# Altium integrated library ON Semi Signal Management Operational Amplifiers.IntLib: 435 symbols (part 6 of 12)
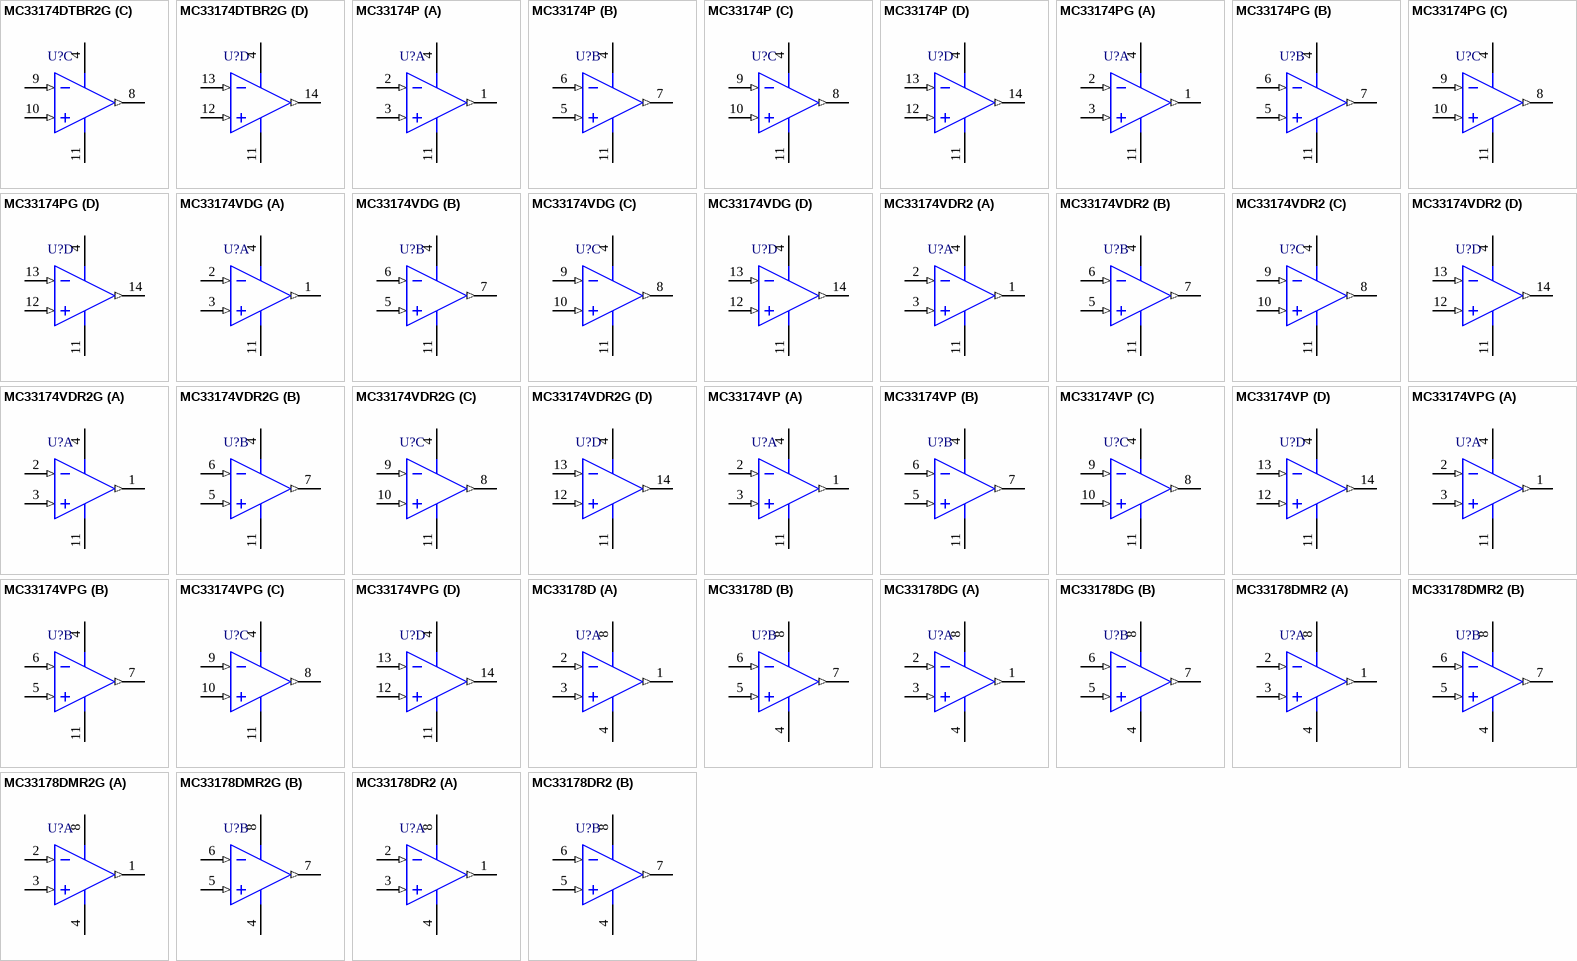
[diagram p30: symbols MC33174DTBR2G to MC33178DR2]

## MC33174VDR2
designator U?
Single Supply, Low Power Operational Amplifier, 3 to 44 V, -40 to 125 degC, 14-Pin SOIC, Tape and Reel; Manufacturer: On Semiconductor; PartNumber: MC33174VDR2; GBW Typ (MHz): 1.8; SR Typ (V/uS): 2.1; VCC Max (V): 44; VCC Min (V): 3; DatasheetVersion: Rev. 12; PackageVersion: Rev. H; PackageReference: SOIC-14-751A-03_H; PackageDescription: 14-Pin Small Outline Integrated Circuit, Body 8.65 x 3.9 mm, Pitch 1.27 mm; Packing: Tape and Reel; RoHS: FALSE; Mounting Technology: Surface Mount; ComponentLink1Description: Manufacturer URL; ComponentLink1URL: http://www.onsemi.com/; ComponentLink2Description: Datasheet; ComponentLink2URL: http://www.onsemi.cn/pub_link/Collateral/MC33171-D.PDF; ComponentLink3Description: Package Specification; ComponentLink3URL: http://www.onsemi.com/pub_link/Collateral/MC74AC74-D.PDF
footprint ONSC-SOIC-14-751A-03_H_V (SOIC, 14-Leads, Body 8.75x4mm, Pitch 1.27mm)
pins on every part: 4 VCC (power), 11 VEE (power)
part A pins: 1 OUT1 (out), 2 IN1- (in), 3 IN1+ (in)
part B pins: 5 IN2+ (in), 6 IN2- (in), 7 OUT2 (out)
part C pins: 8 OUT3 (out), 9 IN3- (in), 10 IN3+ (in)
part D pins: 12 IN4+ (in), 13 IN4- (in), 14 OUT4 (out)

## MC33174VDR2G
designator U?
Single Supply, Low Power Operational Amplifier, 3 to 44 V, -40 to 125 degC, 14-Pin SOIC, Pb-Free, Tape and Reel; Manufacturer: On Semiconductor; PartNumber: MC33174VDR2G; GBW Typ (MHz): 1.8; SR Typ (V/uS): 2.1; VCC Max (V): 44; VCC Min (V): 3; DatasheetVersion: Rev. 12; PackageVersion: Rev. H; PackageReference: SOIC-14-751A-03_H; PackageDescription: 14-Pin Small Outline Integrated Circuit, Body 8.65 x 3.9 mm, Pitch 1.27 mm; Supplier 1: Digi-Key; Supplier Part Number 1: MC33174VDR2GOSTR-ND; Supplier 2: Digi-Key; Supplier Part Number 2: MC33174VDR2GOSCT-ND; Supplier 3: Newark; Supplier Part Number 3: 42K0593; Supplier 4: Mouser; Supplier Part Number 4: 863-MC33174VDR2G; Packing: Tape and Reel; RoHS: TRUE; Mounting Technology: Surface Mount; ComponentLink1Description: Manufacturer URL; ComponentLink1URL: http://www.onsemi.com/; ComponentLink2Description: Datasheet; ComponentLink2URL: http://www.onsemi.cn/pub_link/Collateral/MC33171-D.PDF; ComponentLink3Description: Package Specification; ComponentLink3URL: http://www.onsemi.com/pub_link/Collateral/MC74AC74-D.PDF
footprint ONSC-SOIC-14-751A-03_H_V (SOIC, 14-Leads, Body 8.75x4mm, Pitch 1.27mm)
pins on every part: 4 VCC (power), 11 VEE (power)
part A pins: 1 OUT1 (out), 2 IN1- (in), 3 IN1+ (in)
part B pins: 5 IN2+ (in), 6 IN2- (in), 7 OUT2 (out)
part C pins: 8 OUT3 (out), 9 IN3- (in), 10 IN3+ (in)
part D pins: 12 IN4+ (in), 13 IN4- (in), 14 OUT4 (out)

## MC33174VP
designator U?
Single Supply, Low Power Operational Amplifier, 3 to 44 V, -40 to 125 degC, 14-Pin PDIP, Tube; Manufacturer: On Semiconductor; PartNumber: MC33174VP; GBW Typ (MHz): 1.8; SR Typ (V/uS): 2.1; VCC Max (V): 44; VCC Min (V): 3; DatasheetVersion: Rev. 12; PackageVersion: Rev. P, 10/2006; PackageReference: PDIP-14-646-06_P; PackageDescription: 14-Pin Plastic Dual-In Line Package, Body 18.86 x 6.35 mm, Pitch 2.54 mm; Supplier 1: Digi-Key; Supplier Part Number 1: MC33174VPOS-ND; Packing: Tube; RoHS: FALSE; Mounting Technology: Through Hole; ComponentLink1Description: Manufacturer URL; ComponentLink1URL: http://www.onsemi.com/; ComponentLink2Description: Datasheet; ComponentLink2URL: http://www.onsemi.cn/pub_link/Collateral/MC33171-D.PDF; ComponentLink3Description: Package Specification; ComponentLink3URL: http://www.onsemi.com/pub_link/Collateral/MC14066B-D.PDF
footprint ONSC-PDIP-14-646-06_P (DIP, 14-Leads, Body 19.55x6.6mm, Pitch 2.54mm)
pins on every part: 4 VCC (power), 11 VEE (power)
part A pins: 1 OUT1 (out), 2 IN1- (in), 3 IN1+ (in)
part B pins: 5 IN2+ (in), 6 IN2- (in), 7 OUT2 (out)
part C pins: 8 OUT3 (out), 9 IN3- (in), 10 IN3+ (in)
part D pins: 12 IN4+ (in), 13 IN4- (in), 14 OUT4 (out)

## MC33174VPG
designator U?
Single Supply, Low Power Operational Amplifier, 3 to 44 V, -40 to 125 degC, 14-Pin PDIP, Pb-Free, Tube; Manufacturer: On Semiconductor; PartNumber: MC33174VPG; GBW Typ (MHz): 1.8; SR Typ (V/uS): 2.1; VCC Max (V): 44; VCC Min (V): 3; DatasheetVersion: Rev. 12; PackageVersion: Rev. P, 10/2006; PackageReference: PDIP-14-646-06_P; PackageDescription: 14-Pin Plastic Dual-In Line Package, Body 18.86 x 6.35 mm, Pitch 2.54 mm; Supplier 1: Digi-Key; Supplier Part Number 1: MC33174VPGOS-ND; Supplier 2: Newark; Supplier Part Number 2: 42K0594; Supplier 3: Mouser; Supplier Part Number 3: 863-MC33174VPG; Packing: Tube; RoHS: TRUE; Mounting Technology: Through Hole; ComponentLink1Description: Manufacturer URL; ComponentLink1URL: http://www.onsemi.com/; ComponentLink2Description: Datasheet; ComponentLink2URL: http://www.onsemi.cn/pub_link/Collateral/MC33171-D.PDF; ComponentLink3Description: Package Specification; ComponentLink3URL: http://www.onsemi.com/pub_link/Collateral/MC14066B-D.PDF
footprint ONSC-PDIP-14-646-06_P (DIP, 14-Leads, Body 19.55x6.6mm, Pitch 2.54mm)
pins on every part: 4 VCC (power), 11 VEE (power)
part A pins: 1 OUT1 (out), 2 IN1- (in), 3 IN1+ (in)
part B pins: 5 IN2+ (in), 6 IN2- (in), 7 OUT2 (out)
part C pins: 8 OUT3 (out), 9 IN3- (in), 10 IN3+ (in)
part D pins: 12 IN4+ (in), 13 IN4- (in), 14 OUT4 (out)

## MC33178D
designator U?
Low Power, Low Noise Operational Amplifier, 4 to 36 V, -40 to 85 degC, 8-Pin SOIC, Tube; Manufacturer: On Semiconductor; PartNumber: MC33178D; GBW Typ (MHz): 5; SR Typ (V/uS): 2; VCC Max (V): 36; VCC Min (V): 4; DatasheetVersion: Rev. 7; PackageVersion: Rev. AK, 02/2011; PackageReference: SOIC-8-751-07; PackageDescription: 8-Pin Small Outline Integrated Circuit, Body 4.9 x 3.9 mm, Pitch 1.27 mm; Packing: Tube; RoHS: FALSE; Mounting Technology: Surface Mount; ComponentLink1Description: Manufacturer URL; ComponentLink1URL: http://www.onsemi.com/; ComponentLink2Description: Datasheet; ComponentLink2URL: http://www.onsemi.cn/pub_link/Collateral/MC33178-D.PDF; ComponentLink3Description: Package Specification; ComponentLink3URL: http://www.onsemi.com/pub_link/Collateral/751-07.PDF
footprint ONSC-SOIC-8-751-07_V (SOIC, 8-Leads, Body 4.9x3.9mm, Pitch 1.27mm)
pins on every part: 4 VEE (power), 8 VCC (power)
part A pins: 1 OUT1 (out), 2 IN1- (in), 3 IN1+ (in)
part B pins: 5 IN2+ (in), 6 IN2- (in), 7 OUT2 (out)

## MC33178DG
designator U?
Low Power, Low Noise Operational Amplifier, 4 to 36 V, -40 to 85 degC, 8-Pin SOIC, Pb-Free, Tube; Manufacturer: On Semiconductor; PartNumber: MC33178DG; GBW Typ (MHz): 5; SR Typ (V/uS): 2; VCC Max (V): 36; VCC Min (V): 4; DatasheetVersion: Rev. 7; PackageVersion: Rev. AK, 02/2011; PackageReference: SOIC-8-751-07; PackageDescription: 8-Pin Small Outline Integrated Circuit, Body 4.9 x 3.9 mm, Pitch 1.27 mm; Supplier 1: Digi-Key; Supplier Part Number 1: MC33178DGOS-ND; Supplier 2: Farnell; Supplier Part Number 2: 1468737; Supplier 3: Newark; Supplier Part Number 3: 88H4724; Supplier 4: Mouser; Supplier Part Number 4: 863-MC33178DG; Packing: Tube; RoHS: TRUE; Mounting Technology: Surface Mount; ComponentLink1Description: Manufacturer URL; ComponentLink1URL: http://www.onsemi.com/; ComponentLink2Description: Datasheet; ComponentLink2URL: http://www.onsemi.cn/pub_link/Collateral/MC33178-D.PDF; ComponentLink3Description: Package Specification; ComponentLink3URL: http://www.onsemi.com/pub_link/Collateral/751-07.PDF
footprint ONSC-SOIC-8-751-07_V (SOIC, 8-Leads, Body 4.9x3.9mm, Pitch 1.27mm)
pins on every part: 4 VEE (power), 8 VCC (power)
part A pins: 1 OUT1 (out), 2 IN1- (in), 3 IN1+ (in)
part B pins: 5 IN2+ (in), 6 IN2- (in), 7 OUT2 (out)

## MC33178DMR2
designator U?
Low Power, Low Noise Operational Amplifier, 4 to 36 V, -40 to 85 degC, 8-Pin MICRO, Tape and Reel; Manufacturer: On Semiconductor; PartNumber: MC33178DMR2; GBW Typ (MHz): 5; SR Typ (V/uS): 2; VCC Max (V): 36; VCC Min (V): 4; DatasheetVersion: Rev. 7; PackageVersion: Rev. H; PackageReference: MICRO-8-846A-02_H; PackageDescription: 8-Pin Small Outline Package, Body 3 x 3 mm, Pitch 0.65 mm; Packing: Tape and Reel; RoHS: FALSE; Mounting Technology: Surface Mount; ComponentLink1Description: Manufacturer URL; ComponentLink1URL: http://www.onsemi.com/; ComponentLink2Description: Datasheet; ComponentLink2URL: http://www.onsemi.cn/pub_link/Collateral/MC33178-D.PDF; ComponentLink3Description: Package Specification; ComponentLink3URL: http://www.onsemi.com/pub_link/Collateral/NLSV2T244-D.PDF
footprint ONSC-MICRO-8-846A-02_H_V (SOIC, 8-Leads, Body 3.1x3.1mm, Pitch 0.65mm)
pins on every part: 4 VEE (power), 8 VCC (power)
part A pins: 1 OUT1 (out), 2 IN1- (in), 3 IN1+ (in)
part B pins: 5 IN2+ (in), 6 IN2- (in), 7 OUT2 (out)

## MC33178DMR2G
designator U?
Low Power, Low Noise Operational Amplifier, 4 to 36 V, -40 to 85 degC, 8-Pin MICRO, Pb-Free, Tape and Reel; Manufacturer: On Semiconductor; PartNumber: MC33178DMR2G; GBW Typ (MHz): 5; SR Typ (V/uS): 2; VCC Max (V): 36; VCC Min (V): 4; DatasheetVersion: Rev. 7; PackageVersion: Rev. H; PackageReference: MICRO-8-846A-02_H; PackageDescription: 8-Pin Small Outline Package, Body 3 x 3 mm, Pitch 0.65 mm; Supplier 1: Digi-Key; Supplier Part Number 1: MC33178DMR2GOSTR-ND; Supplier 2: Digi-Key; Supplier Part Number 2: MC33178DMR2GOSCT-ND; Supplier 3: Digi-Key; Supplier Part Number 3: MC33178DMR2GOSDKR-ND; Supplier 4: Newark; Supplier Part Number 4: 61K0882; Supplier 5: Mouser; Supplier Part Number 5: 863-MC33178DMR2G; Packing: Tape and Reel; RoHS: TRUE; Mounting Technology: Surface Mount; ComponentLink1Description: Manufacturer URL; ComponentLink1URL: http://www.onsemi.com/; ComponentLink2Description: Datasheet; ComponentLink2URL: http://www.onsemi.cn/pub_link/Collateral/MC33178-D.PDF; ComponentLink3Description: Package Specification; ComponentLink3URL: http://www.onsemi.com/pub_link/Collateral/NLSV2T244-D.PDF
footprint ONSC-MICRO-8-846A-02_H_V (SOIC, 8-Leads, Body 3.1x3.1mm, Pitch 0.65mm)
pins on every part: 4 VEE (power), 8 VCC (power)
part A pins: 1 OUT1 (out), 2 IN1- (in), 3 IN1+ (in)
part B pins: 5 IN2+ (in), 6 IN2- (in), 7 OUT2 (out)

## MC33178DR2
designator U?
Low Power, Low Noise Operational Amplifier, 4 to 36 V, -40 to 85 degC, 8-Pin SOIC, Tape and Reel; Manufacturer: On Semiconductor; PartNumber: MC33178DR2; GBW Typ (MHz): 5; SR Typ (V/uS): 2; VCC Max (V): 36; VCC Min (V): 4; DatasheetVersion: Rev. 7; PackageVersion: Rev. AK, 02/2011; PackageReference: SOIC-8-751-07; PackageDescription: 8-Pin Small Outline Integrated Circuit, Body 4.9 x 3.9 mm, Pitch 1.27 mm; Supplier 1: Digi-Key; Supplier Part Number 1: MC33178DR2OSCT-ND; Packing: Tape and Reel; RoHS: FALSE; Mounting Technology: Surface Mount; ComponentLink1Description: Manufacturer URL; ComponentLink1URL: http://www.onsemi.com/; ComponentLink2Description: Datasheet; ComponentLink2URL: http://www.onsemi.cn/pub_link/Collateral/MC33178-D.PDF; ComponentLink3Description: Package Specification; ComponentLink3URL: http://www.onsemi.com/pub_link/Collateral/751-07.PDF
footprint ONSC-SOIC-8-751-07_V (SOIC, 8-Leads, Body 4.9x3.9mm, Pitch 1.27mm)
pins on every part: 4 VEE (power), 8 VCC (power)
part A pins: 1 OUT1 (out), 2 IN1- (in), 3 IN1+ (in)
part B pins: 5 IN2+ (in), 6 IN2- (in), 7 OUT2 (out)

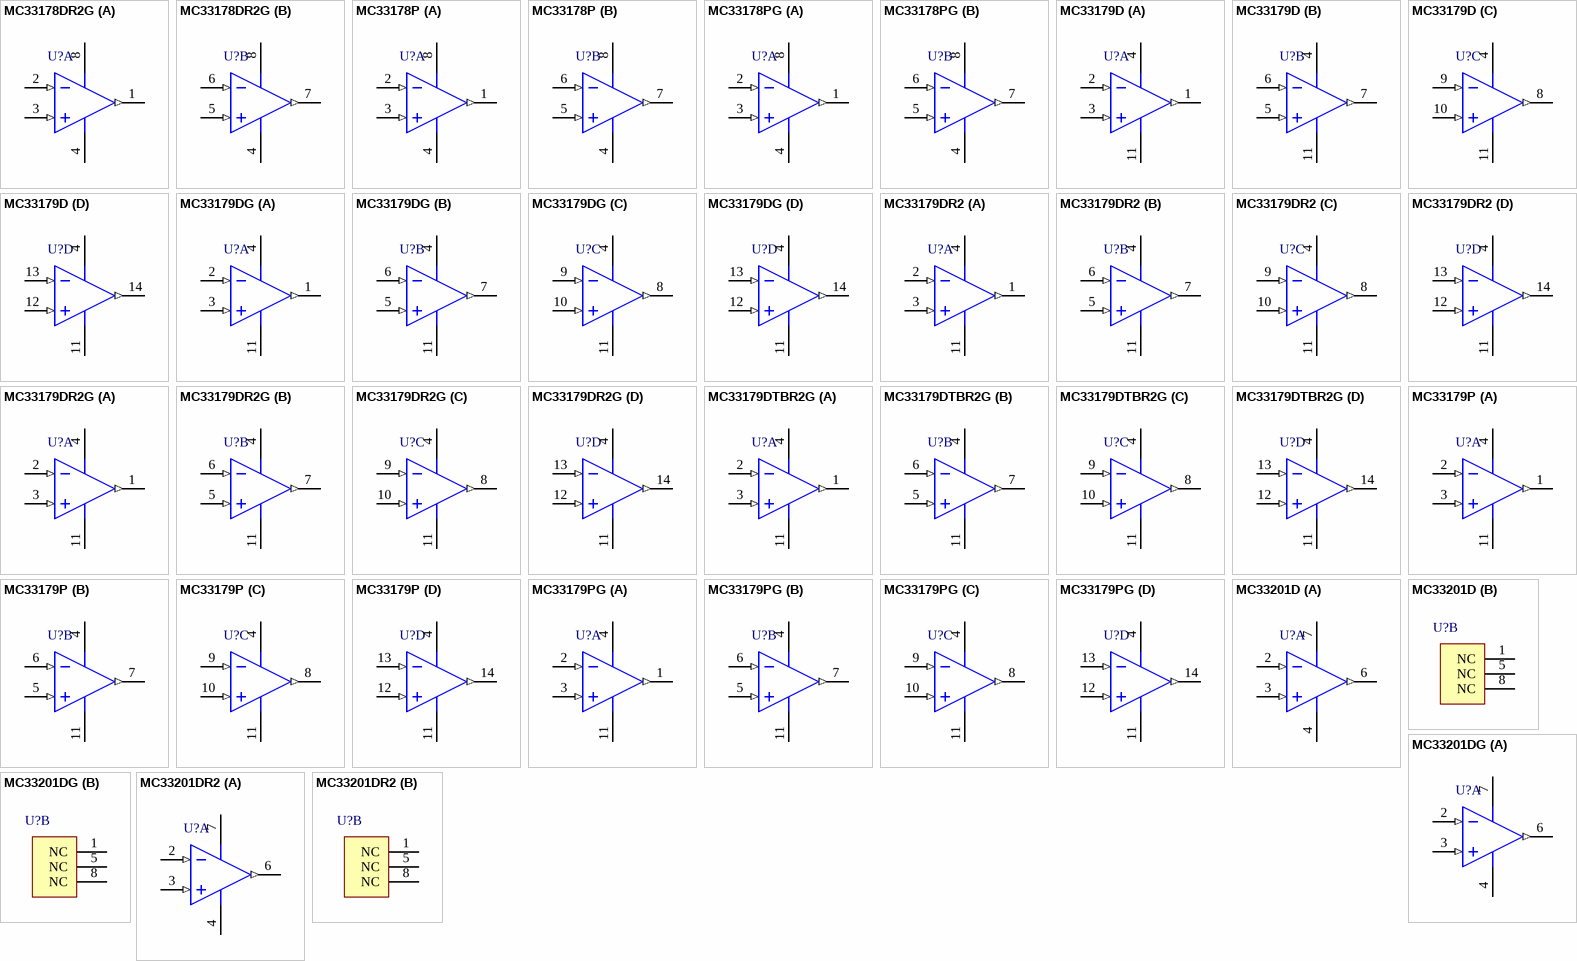
[diagram p13: symbols MC33178DR2G to MC33201DR2]

## MC33178DR2G
designator U?
Low Power, Low Noise Operational Amplifier, 4 to 36 V, -40 to 85 degC, 8-Pin SOIC, Pb-Free, Tape and Reel; Manufacturer: On Semiconductor; PartNumber: MC33178DR2G; GBW Typ (MHz): 5; SR Typ (V/uS): 2; VCC Max (V): 36; VCC Min (V): 4; DatasheetVersion: Rev. 7; PackageVersion: Rev. AK, 02/2011; PackageReference: SOIC-8-751-07; PackageDescription: 8-Pin Small Outline Integrated Circuit, Body 4.9 x 3.9 mm, Pitch 1.27 mm; Supplier 1: Digi-Key; Supplier Part Number 1: MC33178DR2GOSTR-ND; Supplier 2: Digi-Key; Supplier Part Number 2: MC33178DR2GOSCT-ND; Supplier 3: Digi-Key; Supplier Part Number 3: MC33178DR2GOSDKR-ND; Supplier 4: Farnell; Supplier Part Number 4: 1260806; Supplier 5: Newark; Supplier Part Number 5: 45J1176; Supplier 6: Newark; Supplier Part Number 6: 29X6050; Supplier 7: Mouser; Supplier Part Number 7: 863-MC33178DR2G; Packing: Tape and Reel; RoHS: TRUE; Mounting Technology: Surface Mount; ComponentLink1Description: Manufacturer URL; ComponentLink1URL: http://www.onsemi.com/; ComponentLink2Description: Datasheet; ComponentLink2URL: http://www.onsemi.cn/pub_link/Collateral/MC33178-D.PDF; ComponentLink3Description: Package Specification; ComponentLink3URL: http://www.onsemi.com/pub_link/Collateral/751-07.PDF
footprint ONSC-SOIC-8-751-07_V (SOIC, 8-Leads, Body 4.9x3.9mm, Pitch 1.27mm)
pins on every part: 4 VEE (power), 8 VCC (power)
part A pins: 1 OUT1 (out), 2 IN1- (in), 3 IN1+ (in)
part B pins: 5 IN2+ (in), 6 IN2- (in), 7 OUT2 (out)

## MC33178P
designator U?
Low Power, Low Noise Operational Amplifier, 4 to 36 V, -40 to 85 degC, 8-Pin PDIP, Tube; Manufacturer: On Semiconductor; PartNumber: MC33178P; GBW Typ (MHz): 5; SR Typ (V/uS): 2; VCC Max (V): 36; VCC Min (V): 4; DatasheetVersion: Rev. 7; PackageVersion: Rev. L, 09/2000; PackageReference: PDIP-8-626-05; PackageDescription: 8-Pin Plastic Dual-In Line Package, Body 9.78 x 6.35 mm, Pitch 2.54 mm; Packing: Tube; RoHS: FALSE; Mounting Technology: Through Hole; ComponentLink1Description: Manufacturer URL; ComponentLink1URL: http://www.onsemi.com/; ComponentLink2Description: Datasheet; ComponentLink2URL: http://www.onsemi.cn/pub_link/Collateral/MC33178-D.PDF; ComponentLink3Description: Package Specification; ComponentLink3URL: http://www.onsemi.cn/pub_link/Collateral/MC33178-D.PDF
footprint ONSC-PDIP-8-626-05_L (DIP, 8-Leads, Body 10.15x6.6mm, Pitch 2.54mm)
pins on every part: 4 VEE (power), 8 VCC (power)
part A pins: 1 OUT1 (out), 2 IN1- (in), 3 IN1+ (in)
part B pins: 5 IN2+ (in), 6 IN2- (in), 7 OUT2 (out)

## MC33178PG
designator U?
Low Power, Low Noise Operational Amplifier, 4 to 36 V, -40 to 85 degC, 8-Pin PDIP, Pb-Free, Tube; Manufacturer: On Semiconductor; PartNumber: MC33178PG; GBW Typ (MHz): 5; SR Typ (V/uS): 2; VCC Max (V): 36; VCC Min (V): 4; DatasheetVersion: Rev. 7; PackageVersion: Rev. L, 09/2000; PackageReference: PDIP-8-626-05; PackageDescription: 8-Pin Plastic Dual-In Line Package, Body 9.78 x 6.35 mm, Pitch 2.54 mm; Supplier 1: Digi-Key; Supplier Part Number 1: MC33178PGOS-ND; Supplier 2: Farnell; Supplier Part Number 2: 9666818; Supplier 3: Newark; Supplier Part Number 3: 71J5521; Supplier 4: Mouser; Supplier Part Number 4: 863-MC33178PG; Packing: Tube; RoHS: TRUE; Mounting Technology: Through Hole; ComponentLink1Description: Manufacturer URL; ComponentLink1URL: http://www.onsemi.com/; ComponentLink2Description: Datasheet; ComponentLink2URL: http://www.onsemi.cn/pub_link/Collateral/MC33178-D.PDF; ComponentLink3Description: Package Specification; ComponentLink3URL: http://www.onsemi.cn/pub_link/Collateral/MC33178-D.PDF
footprint ONSC-PDIP-8-626-05_L (DIP, 8-Leads, Body 10.15x6.6mm, Pitch 2.54mm)
pins on every part: 4 VEE (power), 8 VCC (power)
part A pins: 1 OUT1 (out), 2 IN1- (in), 3 IN1+ (in)
part B pins: 5 IN2+ (in), 6 IN2- (in), 7 OUT2 (out)

## MC33179D
designator U?
Low Power, Low Noise Operational Amplifier, 4 to 36 V, -40 to 85 degC, 14-Pin SOIC, Tube; Manufacturer: On Semiconductor; PartNumber: MC33179D; GBW Typ (MHz): 5; SR Typ (V/uS): 2; VCC Max (V): 36; VCC Min (V): 4; DatasheetVersion: Rev. 7; PackageVersion: Rev. H; PackageReference: SOIC-14-751A-03_H; PackageDescription: 14-Pin Small Outline Integrated Circuit, Body 8.65 x 3.9 mm, Pitch 1.27 mm; Packing: Tube; RoHS: FALSE; Mounting Technology: Surface Mount; ComponentLink1Description: Manufacturer URL; ComponentLink1URL: http://www.onsemi.com/; ComponentLink2Description: Datasheet; ComponentLink2URL: http://www.onsemi.cn/pub_link/Collateral/MC33178-D.PDF; ComponentLink3Description: Package Specification; ComponentLink3URL: http://www.onsemi.com/pub_link/Collateral/MC74AC74-D.PDF
footprint ONSC-SOIC-14-751A-03_H_V (SOIC, 14-Leads, Body 8.75x4mm, Pitch 1.27mm)
pins on every part: 4 VCC (power), 11 VEE (power)
part A pins: 1 OUT1 (out), 2 IN1- (in), 3 IN1+ (in)
part B pins: 5 IN2+ (in), 6 IN2- (in), 7 OUT2 (out)
part C pins: 8 OUT3 (out), 9 IN3- (in), 10 IN3+ (in)
part D pins: 12 IN4+ (in), 13 IN4- (in), 14 OUT4 (out)

## MC33179DG
designator U?
Low Power, Low Noise Operational Amplifier, 4 to 36 V, -40 to 85 degC, 14-Pin SOIC, Pb-Free, Tube; Manufacturer: On Semiconductor; PartNumber: MC33179DG; GBW Typ (MHz): 5; SR Typ (V/uS): 2; VCC Max (V): 36; VCC Min (V): 4; DatasheetVersion: Rev. 7; PackageVersion: Rev. H; PackageReference: SOIC-14-751A-03_H; PackageDescription: 14-Pin Small Outline Integrated Circuit, Body 8.65 x 3.9 mm, Pitch 1.27 mm; Supplier 1: Digi-Key; Supplier Part Number 1: MC33179DGOS-ND; Supplier 2: Farnell; Supplier Part Number 2: 1651874; Supplier 3: Newark; Supplier Part Number 3: 98H0686; Supplier 4: Mouser; Supplier Part Number 4: 863-MC33179DG; Packing: Tube; RoHS: TRUE; Mounting Technology: Surface Mount; ComponentLink1Description: Manufacturer URL; ComponentLink1URL: http://www.onsemi.com/; ComponentLink2Description: Datasheet; ComponentLink2URL: http://www.onsemi.cn/pub_link/Collateral/MC33178-D.PDF; ComponentLink3Description: Package Specification; ComponentLink3URL: http://www.onsemi.com/pub_link/Collateral/MC74AC74-D.PDF
footprint ONSC-SOIC-14-751A-03_H_V (SOIC, 14-Leads, Body 8.75x4mm, Pitch 1.27mm)
pins on every part: 4 VCC (power), 11 VEE (power)
part A pins: 1 OUT1 (out), 2 IN1- (in), 3 IN1+ (in)
part B pins: 5 IN2+ (in), 6 IN2- (in), 7 OUT2 (out)
part C pins: 8 OUT3 (out), 9 IN3- (in), 10 IN3+ (in)
part D pins: 12 IN4+ (in), 13 IN4- (in), 14 OUT4 (out)

## MC33179DR2
designator U?
Low Power, Low Noise Operational Amplifier, 4 to 36 V, -40 to 85 degC, 14-Pin SOIC, Tape and Reel; Manufacturer: On Semiconductor; PartNumber: MC33179DR2; GBW Typ (MHz): 5; SR Typ (V/uS): 2; VCC Max (V): 36; VCC Min (V): 4; DatasheetVersion: Rev. 7; PackageVersion: Rev. H; PackageReference: SOIC-14-751A-03_H; PackageDescription: 14-Pin Small Outline Integrated Circuit, Body 8.65 x 3.9 mm, Pitch 1.27 mm; Supplier 1: Digi-Key; Supplier Part Number 1: MC33179DR2OSCT-ND; Supplier 2: Digi-Key; Supplier Part Number 2: MC33179DR2OSDKR-ND; Packing: Tape and Reel; RoHS: FALSE; Mounting Technology: Surface Mount; ComponentLink1Description: Manufacturer URL; ComponentLink1URL: http://www.onsemi.com/; ComponentLink2Description: Datasheet; ComponentLink2URL: http://www.onsemi.cn/pub_link/Collateral/MC33178-D.PDF; ComponentLink3Description: Package Specification; ComponentLink3URL: http://www.onsemi.com/pub_link/Collateral/MC74AC74-D.PDF
footprint ONSC-SOIC-14-751A-03_H_V (SOIC, 14-Leads, Body 8.75x4mm, Pitch 1.27mm)
pins on every part: 4 VCC (power), 11 VEE (power)
part A pins: 1 OUT1 (out), 2 IN1- (in), 3 IN1+ (in)
part B pins: 5 IN2+ (in), 6 IN2- (in), 7 OUT2 (out)
part C pins: 8 OUT3 (out), 9 IN3- (in), 10 IN3+ (in)
part D pins: 12 IN4+ (in), 13 IN4- (in), 14 OUT4 (out)

## MC33179DR2G
designator U?
Low Power, Low Noise Operational Amplifier, 4 to 36 V, -40 to 85 degC, 14-Pin SOIC, Pb-Free, Tape and Reel; Manufacturer: On Semiconductor; PartNumber: MC33179DR2G; GBW Typ (MHz): 5; SR Typ (V/uS): 2; VCC Max (V): 36; VCC Min (V): 4; DatasheetVersion: Rev. 7; PackageVersion: Rev. H; PackageReference: SOIC-14-751A-03_H; PackageDescription: 14-Pin Small Outline Integrated Circuit, Body 8.65 x 3.9 mm, Pitch 1.27 mm; Supplier 1: Digi-Key; Supplier Part Number 1: MC33179DR2GOSTR-ND; Supplier 2: Digi-Key; Supplier Part Number 2: MC33179DR2GOSCT-ND; Supplier 3: Digi-Key; Supplier Part Number 3: MC33179DR2GOSDKR-ND; Supplier 4: Newark; Supplier Part Number 4: 98H0687; Supplier 5: Newark; Supplier Part Number 5: 29X6051; Supplier 6: Mouser; Supplier Part Number 6: 863-MC33179DR2G; Packing: Tape and Reel; RoHS: TRUE; Mounting Technology: Surface Mount; ComponentLink1Description: Manufacturer URL; ComponentLink1URL: http://www.onsemi.com/; ComponentLink2Description: Datasheet; ComponentLink2URL: http://www.onsemi.cn/pub_link/Collateral/MC33178-D.PDF; ComponentLink3Description: Package Specification; ComponentLink3URL: http://www.onsemi.com/pub_link/Collateral/MC74AC74-D.PDF
footprint ONSC-SOIC-14-751A-03_H_V (SOIC, 14-Leads, Body 8.75x4mm, Pitch 1.27mm)
pins on every part: 4 VCC (power), 11 VEE (power)
part A pins: 1 OUT1 (out), 2 IN1- (in), 3 IN1+ (in)
part B pins: 5 IN2+ (in), 6 IN2- (in), 7 OUT2 (out)
part C pins: 8 OUT3 (out), 9 IN3- (in), 10 IN3+ (in)
part D pins: 12 IN4+ (in), 13 IN4- (in), 14 OUT4 (out)

## MC33179DTBR2G
designator U?
Low Power, Low Noise Operational Amplifier, 4 to 36 V, -40 to 85 degC, 14-Pin TSSOP, Pb-Free, Tape and Reel; Manufacturer: On Semiconductor; PartNumber: MC33179DTBR2G; GBW Typ (MHz): 5; SR Typ (V/uS): 2; VCC Max (V): 36; VCC Min (V): 4; DatasheetVersion: Rev. 7; PackageVersion: Rev. B, 10/2006; PackageReference: TSSOP-14-948G-01; PackageDescription: 14-Pin Small Outline Package, Body 5 x 4.4 mm, Pitch 0.65 mm; Supplier 1: Digi-Key; Supplier Part Number 1: MC33179DTBR2GOSTR-ND; Supplier 2: Digi-Key; Supplier Part Number 2: MC33179DTBR2GOSCT-ND; Supplier 3: Digi-Key; Supplier Part Number 3: MC33179DTBR2GOSDKR-ND; Supplier 4: Newark; Supplier Part Number 4: 68K9903; Supplier 5: Mouser; Supplier Part Number 5: 863-MC33179DTBR2G; Packing: Tape and Reel; RoHS: TRUE; Mounting Technology: Surface Mount; ComponentLink1Description: Manufacturer URL; ComponentLink1URL: http://www.onsemi.com/; ComponentLink2Description: Datasheet; ComponentLink2URL: http://www.onsemi.cn/pub_link/Collateral/MC33178-D.PDF; ComponentLink3Description: Package Specification; ComponentLink3URL: http://www.onsemi.com/pub_link/Collateral/948G-01.PDF
footprint ONSC-TSSOP-14-948G-01_V (SOP, 14-Leads, Body 5.1x4.5mm, Pitch 0.65mm)
pins on every part: 4 VCC (power), 11 VEE (power)
part A pins: 1 OUT1 (out), 2 IN1- (in), 3 IN1+ (in)
part B pins: 5 IN2+ (in), 6 IN2- (in), 7 OUT2 (out)
part C pins: 8 OUT3 (out), 9 IN3- (in), 10 IN3+ (in)
part D pins: 12 IN4+ (in), 13 IN4- (in), 14 OUT4 (out)

## MC33179P
designator U?
Low Power, Low Noise Operational Amplifier, 4 to 36 V, -40 to 85 degC, 14-Pin PDIP, Tube; Manufacturer: On Semiconductor; PartNumber: MC33179P; GBW Typ (MHz): 5; SR Typ (V/uS): 2; VCC Max (V): 36; VCC Min (V): 4; DatasheetVersion: Rev. 7; PackageVersion: Rev. P, 10/2006; PackageReference: PDIP-14-646-06_P; PackageDescription: 14-Pin Plastic Dual-In Line Package, Body 18.86 x 6.35 mm, Pitch 2.54 mm; Supplier 1: Mouser; Supplier Part Number 1: 863-MC33179P; Packing: Tube; RoHS: FALSE; Mounting Technology: Through Hole; ComponentLink1Description: Manufacturer URL; ComponentLink1URL: http://www.onsemi.com/; ComponentLink2Description: Datasheet; ComponentLink2URL: http://www.onsemi.cn/pub_link/Collateral/MC33178-D.PDF; ComponentLink3Description: Package Specification; ComponentLink3URL: http://www.onsemi.com/pub_link/Collateral/MC14066B-D.PDF
footprint ONSC-PDIP-14-646-06_P (DIP, 14-Leads, Body 19.55x6.6mm, Pitch 2.54mm)
pins on every part: 4 VCC (power), 11 VEE (power)
part A pins: 1 OUT1 (out), 2 IN1- (in), 3 IN1+ (in)
part B pins: 5 IN2+ (in), 6 IN2- (in), 7 OUT2 (out)
part C pins: 8 OUT3 (out), 9 IN3- (in), 10 IN3+ (in)
part D pins: 12 IN4+ (in), 13 IN4- (in), 14 OUT4 (out)

## MC33179PG
designator U?
Low Power, Low Noise Operational Amplifier, 4 to 36 V, -40 to 85 degC, 14-Pin PDIP, Pb-Free, Tube; Manufacturer: On Semiconductor; PartNumber: MC33179PG; GBW Typ (MHz): 5; SR Typ (V/uS): 2; VCC Max (V): 36; VCC Min (V): 4; DatasheetVersion: Rev. 7; PackageVersion: Rev. P, 10/2006; PackageReference: PDIP-14-646-06_P; PackageDescription: 14-Pin Plastic Dual-In Line Package, Body 18.86 x 6.35 mm, Pitch 2.54 mm; Supplier 1: Digi-Key; Supplier Part Number 1: MC33179PGOS-ND; Supplier 2: Farnell; Supplier Part Number 2: 9666826; Supplier 3: Newark; Supplier Part Number 3: 26K4013; Supplier 4: Mouser; Supplier Part Number 4: 863-MC33179PG; Packing: Tube; RoHS: TRUE; Mounting Technology: Through Hole; ComponentLink1Description: Manufacturer URL; ComponentLink1URL: http://www.onsemi.com/; ComponentLink2Description: Datasheet; ComponentLink2URL: http://www.onsemi.cn/pub_link/Collateral/MC33178-D.PDF; ComponentLink3Description: Package Specification; ComponentLink3URL: http://www.onsemi.com/pub_link/Collateral/MC14066B-D.PDF
footprint ONSC-PDIP-14-646-06_P (DIP, 14-Leads, Body 19.55x6.6mm, Pitch 2.54mm)
pins on every part: 4 VCC (power), 11 VEE (power)
part A pins: 1 OUT1 (out), 2 IN1- (in), 3 IN1+ (in)
part B pins: 5 IN2+ (in), 6 IN2- (in), 7 OUT2 (out)
part C pins: 8 OUT3 (out), 9 IN3- (in), 10 IN3+ (in)
part D pins: 12 IN4+ (in), 13 IN4- (in), 14 OUT4 (out)

## MC33201D
designator U?
Low Voltage, Rail-to-Rail Operational Amplifier, 1.8 to 12 V, -40 to 105 degC, 8-Pin SOIC, Tube; Manufacturer: On Semiconductor; PartNumber: MC33201D; GBW Typ (MHz): 2.2; SR Typ (V/uS): 1; VCC Max (V): 12; VCC Min (V): 1.8; DatasheetVersion: Rev. 17; PackageVersion: Rev. AK, 02/2011; PackageReference: SOIC-8-751-07; PackageDescription: 8-Pin Small Outline Integrated Circuit, Body 4.9 x 3.9 mm, Pitch 1.27 mm; Packing: Tube; RoHS: FALSE; Mounting Technology: Surface Mount; ComponentLink1Description: Manufacturer URL; ComponentLink1URL: http://www.onsemi.com/; ComponentLink2Description: Datasheet; ComponentLink2URL: http://www.onsemi.cn/pub_link/Collateral/MC33201-D.PDF; ComponentLink3Description: Package Specification; ComponentLink3URL: http://www.onsemi.com/pub_link/Collateral/751-07.PDF
footprint ONSC-SOIC-8-751-07_V (SOIC, 8-Leads, Body 4.9x3.9mm, Pitch 1.27mm)
part A pins: 2 IN- (in), 3 IN+ (in), 4 VEE (power), 6 OUT (out), 7 VCC (power)
part B pins: 1 NC, 5 NC, 8 NC

## MC33201DG
designator U?
Low Voltage, Rail-to-Rail Operational Amplifier, 1.8 to 12 V, -40 to 105 degC, 8-Pin SOIC, Pb-Free, Tube; Manufacturer: On Semiconductor; PartNumber: MC33201DG; GBW Typ (MHz): 2.2; SR Typ (V/uS): 1; VCC Max (V): 12; VCC Min (V): 1.8; DatasheetVersion: Rev. 17; PackageVersion: Rev. AK, 02/2011; PackageReference: SOIC-8-751-07; PackageDescription: 8-Pin Small Outline Integrated Circuit, Body 4.9 x 3.9 mm, Pitch 1.27 mm; Supplier 1: Digi-Key; Supplier Part Number 1: MC33201DGOS-ND; Supplier 2: Farnell; Supplier Part Number 2: 9666656; Supplier 3: Newark; Supplier Part Number 3: 71J5522; Supplier 4: Mouser; Supplier Part Number 4: 863-MC33201DG; Packing: Tube; RoHS: TRUE; Mounting Technology: Surface Mount; ComponentLink1Description: Manufacturer URL; ComponentLink1URL: http://www.onsemi.com/; ComponentLink2Description: Datasheet; ComponentLink2URL: http://www.onsemi.cn/pub_link/Collateral/MC33201-D.PDF; ComponentLink3Description: Package Specification; ComponentLink3URL: http://www.onsemi.com/pub_link/Collateral/751-07.PDF
footprint ONSC-SOIC-8-751-07_V (SOIC, 8-Leads, Body 4.9x3.9mm, Pitch 1.27mm)
part A pins: 2 IN- (in), 3 IN+ (in), 4 VEE (power), 6 OUT (out), 7 VCC (power)
part B pins: 1 NC, 5 NC, 8 NC

## MC33201DR2
designator U?
Low Voltage, Rail-to-Rail Operational Amplifier, 1.8 to 12 V, -40 to 105 degC, 8-Pin SOIC, Tape and Reel; Manufacturer: On Semiconductor; PartNumber: MC33201DR2; GBW Typ (MHz): 2.2; SR Typ (V/uS): 1; VCC Max (V): 12; VCC Min (V): 1.8; DatasheetVersion: Rev. 17; PackageVersion: Rev. AK, 02/2011; PackageReference: SOIC-8-751-07; PackageDescription: 8-Pin Small Outline Integrated Circuit, Body 4.9 x 3.9 mm, Pitch 1.27 mm; Packing: Tape and Reel; RoHS: FALSE; Mounting Technology: Surface Mount; ComponentLink1Description: Manufacturer URL; ComponentLink1URL: http://www.onsemi.com/; ComponentLink2Description: Datasheet; ComponentLink2URL: http://www.onsemi.cn/pub_link/Collateral/MC33201-D.PDF; ComponentLink3Description: Package Specification; ComponentLink3URL: http://www.onsemi.com/pub_link/Collateral/751-07.PDF
footprint ONSC-SOIC-8-751-07_V (SOIC, 8-Leads, Body 4.9x3.9mm, Pitch 1.27mm)
part A pins: 2 IN- (in), 3 IN+ (in), 4 VEE (power), 6 OUT (out), 7 VCC (power)
part B pins: 1 NC, 5 NC, 8 NC

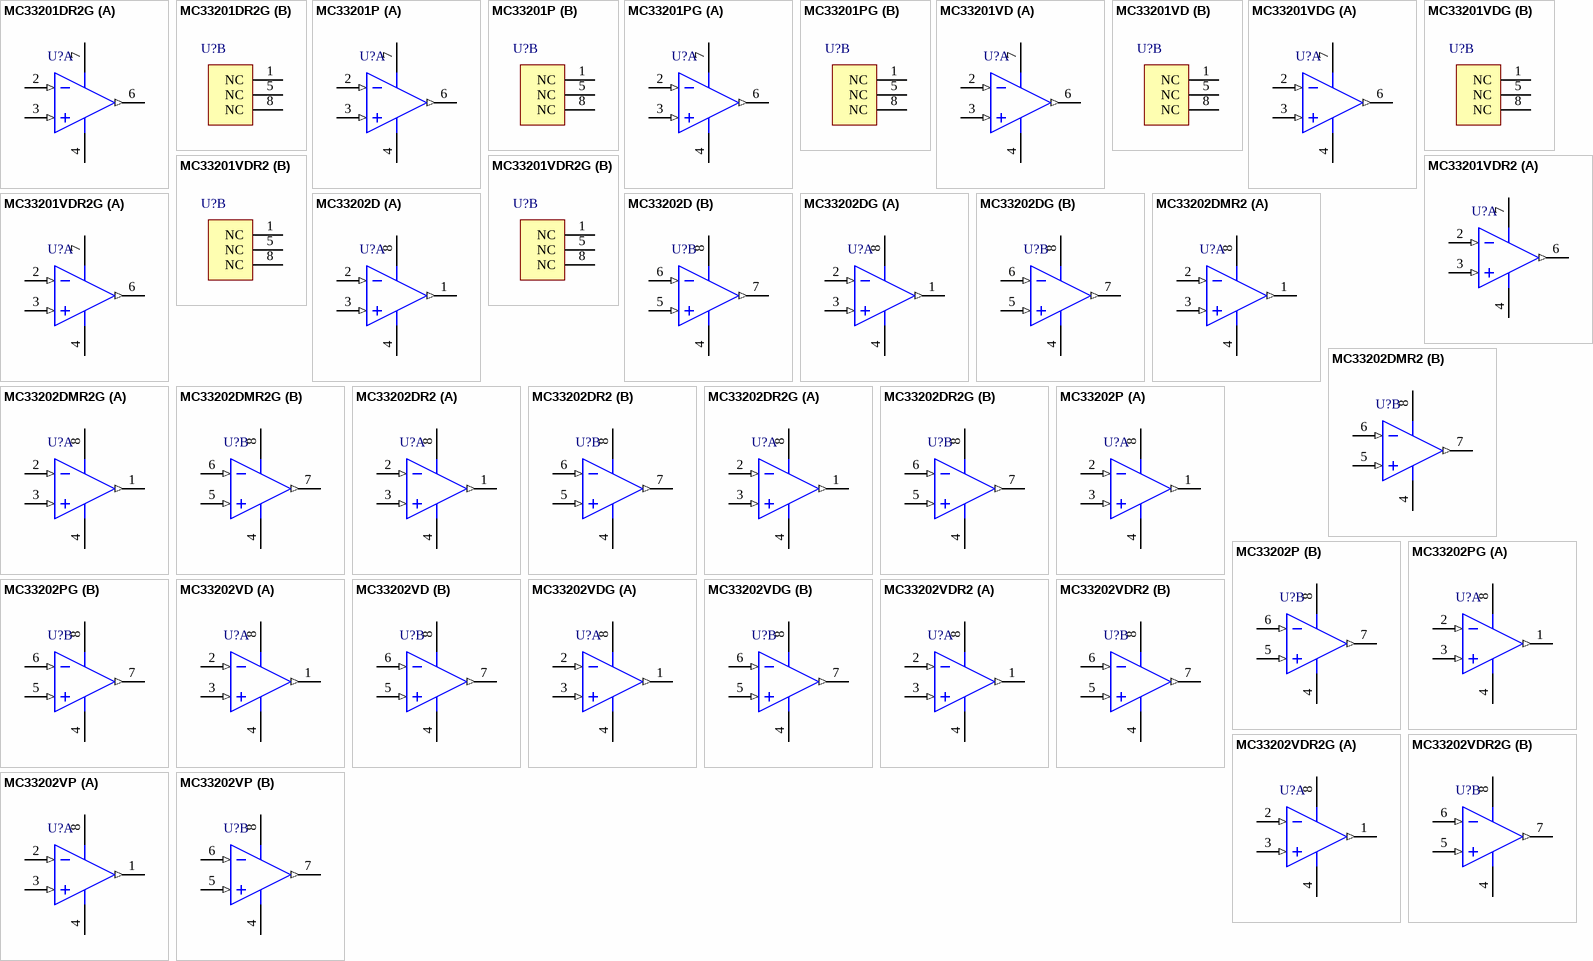
[diagram p14: symbols MC33201DR2G to MC33202VP]

## MC33201DR2G
designator U?
Low Voltage, Rail-to-Rail Operational Amplifier, 1.8 to 12 V, -40 to 105 degC, 8-Pin SOIC, Pb-Free, Tape and Reel; Manufacturer: On Semiconductor; PartNumber: MC33201DR2G; GBW Typ (MHz): 2.2; SR Typ (V/uS): 1; VCC Max (V): 12; VCC Min (V): 1.8; DatasheetVersion: Rev. 17; PackageVersion: Rev. AK, 02/2011; PackageReference: SOIC-8-751-07; PackageDescription: 8-Pin Small Outline Integrated Circuit, Body 4.9 x 3.9 mm, Pitch 1.27 mm; Supplier 1: Digi-Key; Supplier Part Number 1: MC33201DR2GOSTR-ND; Supplier 2: Digi-Key; Supplier Part Number 2: MC33201DR2GOSCT-ND; Supplier 3: Digi-Key; Supplier Part Number 3: MC33201DR2GOSDKR-ND; Supplier 4: Newark; Supplier Part Number 4: 71J5523; Supplier 5: Mouser; Supplier Part Number 5: 863-MC33201DR2G; Packing: Tape and Reel; RoHS: TRUE; Mounting Technology: Surface Mount; ComponentLink1Description: Manufacturer URL; ComponentLink1URL: http://www.onsemi.com/; ComponentLink2Description: Datasheet; ComponentLink2URL: http://www.onsemi.cn/pub_link/Collateral/MC33201-D.PDF; ComponentLink3Description: Package Specification; ComponentLink3URL: http://www.onsemi.com/pub_link/Collateral/751-07.PDF
footprint ONSC-SOIC-8-751-07_V (SOIC, 8-Leads, Body 4.9x3.9mm, Pitch 1.27mm)
part A pins: 2 IN- (in), 3 IN+ (in), 4 VEE (power), 6 OUT (out), 7 VCC (power)
part B pins: 1 NC, 5 NC, 8 NC

## MC33201P
designator U?
Low Voltage, Rail-to-Rail Operational Amplifier, 1.8 to 12 V, -40 to 105 degC, 8-Pin PDIP, Tube; Manufacturer: On Semiconductor; PartNumber: MC33201P; GBW Typ (MHz): 2.2; SR Typ (V/uS): 1; VCC Max (V): 12; VCC Min (V): 1.8; DatasheetVersion: Rev. 17; PackageVersion: Rev. N, 06/2013; PackageReference: PDIP-8-626-05; PackageDescription: 8-Pin Plastic Dual-In Line Package, Body 9.59 x 6.605 mm, Pitch 2.54 mm; Supplier 1: Mouser; Supplier Part Number 1: 863-MC33201P; Packing: Tube; RoHS: FALSE; Mounting Technology: Through Hole; ComponentLink1Description: Manufacturer URL; ComponentLink1URL: http://www.onsemi.com/; ComponentLink2Description: Datasheet; ComponentLink2URL: http://www.onsemi.cn/pub_link/Collateral/MC33201-D.PDF; ComponentLink3Description: Package Specification; ComponentLink3URL: http://www.onsemi.cn/pub_link/Collateral/626-05.PDF
footprint ONSC-PDIP-8-626-05 (DIP, 8-Leads, Body 10.15x7.1mm, Pitch 2.54mm)
part A pins: 2 IN- (in), 3 IN+ (in), 4 VEE (power), 6 OUT (out), 7 VCC (power)
part B pins: 1 NC, 5 NC, 8 NC

## MC33201PG
designator U?
Low Voltage, Rail-to-Rail Operational Amplifier, 1.8 to 12 V, -40 to 105 degC, 8-Pin PDIP, Pb-Free, Tube; Manufacturer: On Semiconductor; PartNumber: MC33201PG; GBW Typ (MHz): 2.2; SR Typ (V/uS): 1; VCC Max (V): 12; VCC Min (V): 1.8; DatasheetVersion: Rev. 17; PackageVersion: Rev. N, 06/2013; PackageReference: PDIP-8-626-05; PackageDescription: 8-Pin Plastic Dual-In Line Package, Body 9.59 x 6.605 mm, Pitch 2.54 mm; Supplier 1: Digi-Key; Supplier Part Number 1: MC33201PGOS-ND; Supplier 2: Farnell; Supplier Part Number 2: 9666664; Supplier 3: Newark; Supplier Part Number 3: 26K4014; Supplier 4: Mouser; Supplier Part Number 4: 863-MC33201PG; Packing: Tube; RoHS: TRUE; Mounting Technology: Through Hole; ComponentLink1Description: Manufacturer URL; ComponentLink1URL: http://www.onsemi.com/; ComponentLink2Description: Datasheet; ComponentLink2URL: http://www.onsemi.cn/pub_link/Collateral/MC33201-D.PDF; ComponentLink3Description: Package Specification; ComponentLink3URL: http://www.onsemi.cn/pub_link/Collateral/626-05.PDF
footprint ONSC-PDIP-8-626-05 (DIP, 8-Leads, Body 10.15x7.1mm, Pitch 2.54mm)
part A pins: 2 IN- (in), 3 IN+ (in), 4 VEE (power), 6 OUT (out), 7 VCC (power)
part B pins: 1 NC, 5 NC, 8 NC

## MC33201VD
designator U?
Low Voltage, Rail-to-Rail Operational Amplifier, 1.8 to 12 V, -55 to 125 degC, 8-Pin SOIC, Tube; Manufacturer: On Semiconductor; PartNumber: MC33201VD; GBW Typ (MHz): 2.2; SR Typ (V/uS): 1; VCC Max (V): 12; VCC Min (V): 1.8; DatasheetVersion: Rev. 17; PackageVersion: Rev. AK, 02/2011; PackageReference: SOIC-8-751-07; PackageDescription: 8-Pin Small Outline Integrated Circuit, Body 4.9 x 3.9 mm, Pitch 1.27 mm; Supplier 1: Digi-Key; Supplier Part Number 1: MC33201VDOS-ND; Packing: Tube; RoHS: FALSE; Mounting Technology: Surface Mount; ComponentLink1Description: Manufacturer URL; ComponentLink1URL: http://www.onsemi.com/; ComponentLink2Description: Datasheet; ComponentLink2URL: http://www.onsemi.cn/pub_link/Collateral/MC33201-D.PDF; ComponentLink3Description: Package Specification; ComponentLink3URL: http://www.onsemi.com/pub_link/Collateral/751-07.PDF
footprint ONSC-SOIC-8-751-07_V (SOIC, 8-Leads, Body 4.9x3.9mm, Pitch 1.27mm)
part A pins: 2 IN- (in), 3 IN+ (in), 4 VEE (power), 6 OUT (out), 7 VCC (power)
part B pins: 1 NC, 5 NC, 8 NC

## MC33201VDG
designator U?
Low Voltage, Rail-to-Rail Operational Amplifier, 1.8 to 12 V, -55 to 125 degC, 8-Pin SOIC, Pb-Free, Tube; Manufacturer: On Semiconductor; PartNumber: MC33201VDG; GBW Typ (MHz): 2.2; SR Typ (V/uS): 1; VCC Max (V): 12; VCC Min (V): 1.8; DatasheetVersion: Rev. 17; PackageVersion: Rev. AK, 02/2011; PackageReference: SOIC-8-751-07; PackageDescription: 8-Pin Small Outline Integrated Circuit, Body 4.9 x 3.9 mm, Pitch 1.27 mm; Supplier 1: Digi-Key; Supplier Part Number 1: MC33201VDGOS-ND; Supplier 2: Mouser; Supplier Part Number 2: 863-MC33201VDG; Packing: Tube; RoHS: TRUE; Mounting Technology: Surface Mount; ComponentLink1Description: Manufacturer URL; ComponentLink1URL: http://www.onsemi.com/; ComponentLink2Description: Datasheet; ComponentLink2URL: http://www.onsemi.cn/pub_link/Collateral/MC33201-D.PDF; ComponentLink3Description: Package Specification; ComponentLink3URL: http://www.onsemi.com/pub_link/Collateral/751-07.PDF
footprint ONSC-SOIC-8-751-07_V (SOIC, 8-Leads, Body 4.9x3.9mm, Pitch 1.27mm)
part A pins: 2 IN- (in), 3 IN+ (in), 4 VEE (power), 6 OUT (out), 7 VCC (power)
part B pins: 1 NC, 5 NC, 8 NC

## MC33201VDR2
designator U?
Low Voltage, Rail-to-Rail Operational Amplifier, 1.8 to 12 V, -40 to 105 degC, 8-Pin SOIC, Tape and Reel; Manufacturer: On Semiconductor; PartNumber: MC33201VDR2; GBW Typ (MHz): 2.2; SR Typ (V/uS): 1; VCC Max (V): 12; VCC Min (V): 1.8; DatasheetVersion: Rev. 17; PackageVersion: Rev. AK, 02/2011; PackageReference: SOIC-8-751-07; PackageDescription: 8-Pin Small Outline Integrated Circuit, Body 4.9 x 3.9 mm, Pitch 1.27 mm; Packing: Tape and Reel; RoHS: FALSE; Mounting Technology: Surface Mount; ComponentLink1Description: Manufacturer URL; ComponentLink1URL: http://www.onsemi.com/; ComponentLink2Description: Datasheet; ComponentLink2URL: http://www.onsemi.cn/pub_link/Collateral/MC33201-D.PDF; ComponentLink3Description: Package Specification; ComponentLink3URL: http://www.onsemi.com/pub_link/Collateral/751-07.PDF
footprint ONSC-SOIC-8-751-07_V (SOIC, 8-Leads, Body 4.9x3.9mm, Pitch 1.27mm)
part A pins: 2 IN- (in), 3 IN+ (in), 4 VEE (power), 6 OUT (out), 7 VCC (power)
part B pins: 1 NC, 5 NC, 8 NC

## MC33201VDR2G
designator U?
Low Voltage, Rail-to-Rail Operational Amplifier, 1.8 to 12 V, -40 to 105 degC, 8-Pin SOIC, Pb-Free, Tape and Reel; Manufacturer: On Semiconductor; PartNumber: MC33201VDR2G; GBW Typ (MHz): 2.2; SR Typ (V/uS): 1; VCC Max (V): 12; VCC Min (V): 1.8; DatasheetVersion: Rev. 17; PackageVersion: Rev. AK, 02/2011; PackageReference: SOIC-8-751-07; PackageDescription: 8-Pin Small Outline Integrated Circuit, Body 4.9 x 3.9 mm, Pitch 1.27 mm; Supplier 1: Digi-Key; Supplier Part Number 1: MC33201VDR2G-ND; Supplier 2: Mouser; Supplier Part Number 2: 863-MC33201VDR2G; Packing: Tape and Reel; RoHS: TRUE; Mounting Technology: Surface Mount; ComponentLink1Description: Manufacturer URL; ComponentLink1URL: http://www.onsemi.com/; ComponentLink2Description: Datasheet; ComponentLink2URL: http://www.onsemi.cn/pub_link/Collateral/MC33201-D.PDF; ComponentLink3Description: Package Specification; ComponentLink3URL: http://www.onsemi.com/pub_link/Collateral/751-07.PDF
footprint ONSC-SOIC-8-751-07_V (SOIC, 8-Leads, Body 4.9x3.9mm, Pitch 1.27mm)
part A pins: 2 IN- (in), 3 IN+ (in), 4 VEE (power), 6 OUT (out), 7 VCC (power)
part B pins: 1 NC, 5 NC, 8 NC

## MC33202D
designator U?
Low Voltage, Rail-to-Rail Operational Amplifier, 1.8 to 12 V, -40 to 105 degC, 8-Pin SOIC, Tube; Manufacturer: On Semiconductor; PartNumber: MC33202D; GBW Typ (MHz): 2.2; SR Typ (V/uS): 1; VCC Max (V): 12; VCC Min (V): 1.8; DatasheetVersion: Rev. 17; PackageVersion: Rev. AK, 02/2011; PackageReference: SOIC-8-751-07; PackageDescription: 8-Pin Small Outline Integrated Circuit, Body 4.9 x 3.9 mm, Pitch 1.27 mm; Packing: Tube; RoHS: FALSE; Mounting Technology: Surface Mount; ComponentLink1Description: Manufacturer URL; ComponentLink1URL: http://www.onsemi.com/; ComponentLink2Description: Datasheet; ComponentLink2URL: http://www.onsemi.cn/pub_link/Collateral/MC33201-D.PDF; ComponentLink3Description: Package Specification; ComponentLink3URL: http://www.onsemi.com/pub_link/Collateral/751-07.PDF
footprint ONSC-SOIC-8-751-07_V (SOIC, 8-Leads, Body 4.9x3.9mm, Pitch 1.27mm)
pins on every part: 4 VEE (power), 8 VCC (power)
part A pins: 1 OUT1 (out), 2 IN1- (in), 3 IN1+ (in)
part B pins: 5 IN2+ (in), 6 IN2- (in), 7 OUT2 (out)

## MC33202DG
designator U?
Low Voltage, Rail-to-Rail Operational Amplifier, 1.8 to 12 V, -40 to 105 degC, 8-Pin SOIC, Pb-Free, Tube; Manufacturer: On Semiconductor; PartNumber: MC33202DG; GBW Typ (MHz): 2.2; SR Typ (V/uS): 1; VCC Max (V): 12; VCC Min (V): 1.8; DatasheetVersion: Rev. 17; PackageVersion: Rev. AK, 02/2011; PackageReference: SOIC-8-751-07; PackageDescription: 8-Pin Small Outline Integrated Circuit, Body 4.9 x 3.9 mm, Pitch 1.27 mm; Supplier 1: Digi-Key; Supplier Part Number 1: MC33202DGOS-ND; Supplier 2: Farnell; Supplier Part Number 2: 9666672; Supplier 3: Newark; Supplier Part Number 3: 17H1575; Supplier 4: Mouser; Supplier Part Number 4: 863-MC33202DG; Packing: Tube; RoHS: TRUE; Mounting Technology: Surface Mount; ComponentLink1Description: Manufacturer URL; ComponentLink1URL: http://www.onsemi.com/; ComponentLink2Description: Datasheet; ComponentLink2URL: http://www.onsemi.cn/pub_link/Collateral/MC33201-D.PDF; ComponentLink3Description: Package Specification; ComponentLink3URL: http://www.onsemi.com/pub_link/Collateral/751-07.PDF
footprint ONSC-SOIC-8-751-07_V (SOIC, 8-Leads, Body 4.9x3.9mm, Pitch 1.27mm)
pins on every part: 4 VEE (power), 8 VCC (power)
part A pins: 1 OUT1 (out), 2 IN1- (in), 3 IN1+ (in)
part B pins: 5 IN2+ (in), 6 IN2- (in), 7 OUT2 (out)

## MC33202DMR2
designator U?
Low Voltage, Rail-to-Rail Operational Amplifier, 1.8 to 12 V, -40 to 105 degC, 8-Pin MICRO, Tape and Reel; Manufacturer: On Semiconductor; PartNumber: MC33202DMR2; GBW Typ (MHz): 2.2; SR Typ (V/uS): 1; VCC Max (V): 12; VCC Min (V): 1.8; DatasheetVersion: Rev. 17; PackageVersion: Rev. H; PackageReference: MICRO-8-846A-02_H; PackageDescription: 8-Pin Small Outline Package, Body 3 x 3 mm, Pitch 0.65 mm; Supplier 1: Digi-Key; Supplier Part Number 1: MC33202DMR2OS-ND; Packing: Tape and Reel; RoHS: FALSE; Mounting Technology: Surface Mount; ComponentLink1Description: Manufacturer URL; ComponentLink1URL: http://www.onsemi.com/; ComponentLink2Description: Datasheet; ComponentLink2URL: http://www.onsemi.cn/pub_link/Collateral/MC33201-D.PDF; ComponentLink3Description: Package Specification; ComponentLink3URL: http://www.onsemi.com/pub_link/Collateral/NLSV2T244-D.PDF
footprint ONSC-MICRO-8-846A-02_H_V (SOIC, 8-Leads, Body 3.1x3.1mm, Pitch 0.65mm)
pins on every part: 4 VEE (power), 8 VCC (power)
part A pins: 1 OUT1 (out), 2 IN1- (in), 3 IN1+ (in)
part B pins: 5 IN2+ (in), 6 IN2- (in), 7 OUT2 (out)

## MC33202DMR2G
designator U?
Low Voltage, Rail-to-Rail Operational Amplifier, 1.8 to 12 V, -40 to 105 degC, 8-Pin MICRO, Pb-Free, Tape and Reel; Manufacturer: On Semiconductor; PartNumber: MC33202DMR2G; GBW Typ (MHz): 2.2; SR Typ (V/uS): 1; VCC Max (V): 12; VCC Min (V): 1.8; DatasheetVersion: Rev. 17; PackageVersion: Rev. H; PackageReference: MICRO-8-846A-02_H; PackageDescription: 8-Pin Small Outline Package, Body 3 x 3 mm, Pitch 0.65 mm; Supplier 1: Digi-Key; Supplier Part Number 1: MC33202DMR2GOSTR-ND; Supplier 2: Digi-Key; Supplier Part Number 2: MC33202DMR2GOSCT-ND; Supplier 3: Digi-Key; Supplier Part Number 3: MC33202DMR2GOSDKR-ND; Supplier 4: Farnell; Supplier Part Number 4: 1703200; Supplier 5: Farnell; Supplier Part Number 5: 1703200RL; Supplier 6: Newark; Supplier Part Number 6: 88H4725; Supplier 7: Mouser; Supplier Part Number 7: 863-MC33202DMR2G; Packing: Tape and Reel; RoHS: TRUE; Mounting Technology: Surface Mount; ComponentLink1Description: Manufacturer URL; ComponentLink1URL: http://www.onsemi.com/; ComponentLink2Description: Datasheet; ComponentLink2URL: http://www.onsemi.cn/pub_link/Collateral/MC33201-D.PDF; ComponentLink3Description: Package Specification; ComponentLink3URL: http://www.onsemi.com/pub_link/Collateral/NLSV2T244-D.PDF
footprint ONSC-MICRO-8-846A-02_H_V (SOIC, 8-Leads, Body 3.1x3.1mm, Pitch 0.65mm)
pins on every part: 4 VEE (power), 8 VCC (power)
part A pins: 1 OUT1 (out), 2 IN1- (in), 3 IN1+ (in)
part B pins: 5 IN2+ (in), 6 IN2- (in), 7 OUT2 (out)

## MC33202DR2
designator U?
Low Voltage, Rail-to-Rail Operational Amplifier, 1.8 to 12 V, -40 to 105 degC, 8-Pin SOIC, Tape and Reel; Manufacturer: On Semiconductor; PartNumber: MC33202DR2; GBW Typ (MHz): 2.2; SR Typ (V/uS): 1; VCC Max (V): 12; VCC Min (V): 1.8; DatasheetVersion: Rev. 17; PackageVersion: Rev. AK, 02/2011; PackageReference: SOIC-8-751-07; PackageDescription: 8-Pin Small Outline Integrated Circuit, Body 4.9 x 3.9 mm, Pitch 1.27 mm; Supplier 1: Digi-Key; Supplier Part Number 1: MC33202DR2OSCT-ND; Packing: Tape and Reel; RoHS: FALSE; Mounting Technology: Surface Mount; ComponentLink1Description: Manufacturer URL; ComponentLink1URL: http://www.onsemi.com/; ComponentLink2Description: Datasheet; ComponentLink2URL: http://www.onsemi.cn/pub_link/Collateral/MC33201-D.PDF; ComponentLink3Description: Package Specification; ComponentLink3URL: http://www.onsemi.com/pub_link/Collateral/751-07.PDF
footprint ONSC-SOIC-8-751-07_V (SOIC, 8-Leads, Body 4.9x3.9mm, Pitch 1.27mm)
pins on every part: 4 VEE (power), 8 VCC (power)
part A pins: 1 OUT1 (out), 2 IN1- (in), 3 IN1+ (in)
part B pins: 5 IN2+ (in), 6 IN2- (in), 7 OUT2 (out)

## MC33202DR2G
designator U?
Low Voltage, Rail-to-Rail Operational Amplifier, 1.8 to 12 V, -40 to 105 degC, 8-Pin SOIC, Pb-Free, Tape and Reel; Manufacturer: On Semiconductor; PartNumber: MC33202DR2G; GBW Typ (MHz): 2.2; SR Typ (V/uS): 1; VCC Max (V): 12; VCC Min (V): 1.8; DatasheetVersion: Rev. 17; PackageVersion: Rev. AK, 02/2011; PackageReference: SOIC-8-751-07; PackageDescription: 8-Pin Small Outline Integrated Circuit, Body 4.9 x 3.9 mm, Pitch 1.27 mm; Supplier 1: Digi-Key; Supplier Part Number 1: MC33202DR2GOSTR-ND; Supplier 2: Digi-Key; Supplier Part Number 2: MC33202DR2GOSCT-ND; Supplier 3: Digi-Key; Supplier Part Number 3: MC33202DR2GOSDKR-ND; Supplier 4: Farnell; Supplier Part Number 4: 1890588; Supplier 5: Newark; Supplier Part Number 5: 17H1576; Supplier 6: Newark; Supplier Part Number 6: 29X6052; Supplier 7: Mouser; Supplier Part Number 7: 863-MC33202DR2G; Packing: Tape and Reel; RoHS: TRUE; Mounting Technology: Surface Mount; ComponentLink1Description: Manufacturer URL; ComponentLink1URL: http://www.onsemi.com/; ComponentLink2Description: Datasheet; ComponentLink2URL: http://www.onsemi.cn/pub_link/Collateral/MC33201-D.PDF; ComponentLink3Description: Package Specification; ComponentLink3URL: http://www.onsemi.com/pub_link/Collateral/751-07.PDF
footprint ONSC-SOIC-8-751-07_V (SOIC, 8-Leads, Body 4.9x3.9mm, Pitch 1.27mm)
pins on every part: 4 VEE (power), 8 VCC (power)
part A pins: 1 OUT1 (out), 2 IN1- (in), 3 IN1+ (in)
part B pins: 5 IN2+ (in), 6 IN2- (in), 7 OUT2 (out)

## MC33202P
designator U?
Low Voltage, Rail-to-Rail Operational Amplifier, 1.8 to 12 V, -40 to 105 degC, 8-Pin PDIP, Tube; Manufacturer: On Semiconductor; PartNumber: MC33202P; GBW Typ (MHz): 2.2; SR Typ (V/uS): 1; VCC Max (V): 12; VCC Min (V): 1.8; DatasheetVersion: Rev. 17; PackageVersion: Rev. N, 06/2013; PackageReference: PDIP-8-626-05; PackageDescription: 8-Pin Plastic Dual-In Line Package, Body 9.59 x 6.605 mm, Pitch 2.54 mm; Supplier 1: Mouser; Supplier Part Number 1: 863-MC33202P; Packing: Tube; RoHS: FALSE; Mounting Technology: Through Hole; ComponentLink1Description: Manufacturer URL; ComponentLink1URL: http://www.onsemi.com/; ComponentLink2Description: Datasheet; ComponentLink2URL: http://www.onsemi.cn/pub_link/Collateral/MC33201-D.PDF; ComponentLink3Description: Package Specification; ComponentLink3URL: http://www.onsemi.cn/pub_link/Collateral/626-05.PDF
footprint ONSC-PDIP-8-626-05 (DIP, 8-Leads, Body 10.15x7.1mm, Pitch 2.54mm)
pins on every part: 4 VEE (power), 8 VCC (power)
part A pins: 1 OUT1 (out), 2 IN1- (in), 3 IN1+ (in)
part B pins: 5 IN2+ (in), 6 IN2- (in), 7 OUT2 (out)

## MC33202PG
designator U?
Low Voltage, Rail-to-Rail Operational Amplifier, 1.8 to 12 V, -40 to 105 degC, 8-Pin PDIP, Pb-Free, Tube; Manufacturer: On Semiconductor; PartNumber: MC33202PG; GBW Typ (MHz): 2.2; SR Typ (V/uS): 1; VCC Max (V): 12; VCC Min (V): 1.8; DatasheetVersion: Rev. 17; PackageVersion: Rev. N, 06/2013; PackageReference: PDIP-8-626-05; PackageDescription: 8-Pin Plastic Dual-In Line Package, Body 9.59 x 6.605 mm, Pitch 2.54 mm; Supplier 1: Digi-Key; Supplier Part Number 1: MC33202PGOS-ND; Supplier 2: Farnell; Supplier Part Number 2: 9666680; Supplier 3: Newark; Supplier Part Number 3: 71J5524; Supplier 4: Mouser; Supplier Part Number 4: 863-MC33202PG; Packing: Tube; RoHS: TRUE; Mounting Technology: Through Hole; ComponentLink1Description: Manufacturer URL; ComponentLink1URL: http://www.onsemi.com/; ComponentLink2Description: Datasheet; ComponentLink2URL: http://www.onsemi.cn/pub_link/Collateral/MC33201-D.PDF; ComponentLink3Description: Package Specification; ComponentLink3URL: http://www.onsemi.cn/pub_link/Collateral/626-05.PDF
footprint ONSC-PDIP-8-626-05 (DIP, 8-Leads, Body 10.15x7.1mm, Pitch 2.54mm)
pins on every part: 4 VEE (power), 8 VCC (power)
part A pins: 1 OUT1 (out), 2 IN1- (in), 3 IN1+ (in)
part B pins: 5 IN2+ (in), 6 IN2- (in), 7 OUT2 (out)

## MC33202VD
designator U?
Low Voltage, Rail-to-Rail Operational Amplifier, 1.8 to 12 V, -55 to 125 degC, 8-Pin SOIC, Tube; Manufacturer: On Semiconductor; PartNumber: MC33202VD; GBW Typ (MHz): 2.2; SR Typ (V/uS): 1; VCC Max (V): 12; VCC Min (V): 1.8; DatasheetVersion: Rev. 17; PackageVersion: Rev. AK, 02/2011; PackageReference: SOIC-8-751-07; PackageDescription: 8-Pin Small Outline Integrated Circuit, Body 4.9 x 3.9 mm, Pitch 1.27 mm; Supplier 1: Digi-Key; Supplier Part Number 1: MC33202VDOS-ND; Packing: Tube; RoHS: FALSE; Mounting Technology: Surface Mount; ComponentLink1Description: Manufacturer URL; ComponentLink1URL: http://www.onsemi.com/; ComponentLink2Description: Datasheet; ComponentLink2URL: http://www.onsemi.cn/pub_link/Collateral/MC33201-D.PDF; ComponentLink3Description: Package Specification; ComponentLink3URL: http://www.onsemi.com/pub_link/Collateral/751-07.PDF
footprint ONSC-SOIC-8-751-07_V (SOIC, 8-Leads, Body 4.9x3.9mm, Pitch 1.27mm)
pins on every part: 4 VEE (power), 8 VCC (power)
part A pins: 1 OUT1 (out), 2 IN1- (in), 3 IN1+ (in)
part B pins: 5 IN2+ (in), 6 IN2- (in), 7 OUT2 (out)

## MC33202VDG
designator U?
Low Voltage, Rail-to-Rail Operational Amplifier, 1.8 to 12 V, -55 to 125 degC, 8-Pin SOIC, Pb-Free, Tube; Manufacturer: On Semiconductor; PartNumber: MC33202VDG; GBW Typ (MHz): 2.2; SR Typ (V/uS): 1; VCC Max (V): 12; VCC Min (V): 1.8; DatasheetVersion: Rev. 17; PackageVersion: Rev. AK, 02/2011; PackageReference: SOIC-8-751-07; PackageDescription: 8-Pin Small Outline Integrated Circuit, Body 4.9 x 3.9 mm, Pitch 1.27 mm; Supplier 1: Digi-Key; Supplier Part Number 1: MC33202VDGOS-ND; Supplier 2: Farnell; Supplier Part Number 2: 1143534; Supplier 3: Newark; Supplier Part Number 3: 26K4016; Supplier 4: Mouser; Supplier Part Number 4: 863-MC33202VDG; Packing: Tube; RoHS: TRUE; Mounting Technology: Surface Mount; ComponentLink1Description: Manufacturer URL; ComponentLink1URL: http://www.onsemi.com/; ComponentLink2Description: Datasheet; ComponentLink2URL: http://www.onsemi.cn/pub_link/Collateral/MC33201-D.PDF; ComponentLink3Description: Package Specification; ComponentLink3URL: http://www.onsemi.com/pub_link/Collateral/751-07.PDF
footprint ONSC-SOIC-8-751-07_V (SOIC, 8-Leads, Body 4.9x3.9mm, Pitch 1.27mm)
pins on every part: 4 VEE (power), 8 VCC (power)
part A pins: 1 OUT1 (out), 2 IN1- (in), 3 IN1+ (in)
part B pins: 5 IN2+ (in), 6 IN2- (in), 7 OUT2 (out)

## MC33202VDR2
designator U?
Low Voltage, Rail-to-Rail Operational Amplifier, 1.8 to 12 V, -55 to 125 degC, 8-Pin SOIC, Tape and Reel; Manufacturer: On Semiconductor; PartNumber: MC33202VDR2; GBW Typ (MHz): 2.2; SR Typ (V/uS): 1; VCC Max (V): 12; VCC Min (V): 1.8; DatasheetVersion: Rev. 17; PackageVersion: Rev. AK, 02/2011; PackageReference: SOIC-8-751-07; PackageDescription: 8-Pin Small Outline Integrated Circuit, Body 4.9 x 3.9 mm, Pitch 1.27 mm; Supplier 1: Digi-Key; Supplier Part Number 1: MC33202VDR2OS-ND; Packing: Tape and Reel; RoHS: FALSE; Mounting Technology: Surface Mount; ComponentLink1Description: Manufacturer URL; ComponentLink1URL: http://www.onsemi.com/; ComponentLink2Description: Datasheet; ComponentLink2URL: http://www.onsemi.cn/pub_link/Collateral/MC33201-D.PDF; ComponentLink3Description: Package Specification; ComponentLink3URL: http://www.onsemi.com/pub_link/Collateral/751-07.PDF
footprint ONSC-SOIC-8-751-07_V (SOIC, 8-Leads, Body 4.9x3.9mm, Pitch 1.27mm)
pins on every part: 4 VEE (power), 8 VCC (power)
part A pins: 1 OUT1 (out), 2 IN1- (in), 3 IN1+ (in)
part B pins: 5 IN2+ (in), 6 IN2- (in), 7 OUT2 (out)